# EAGLE library part STM32F030K6 (library pel_stm32)
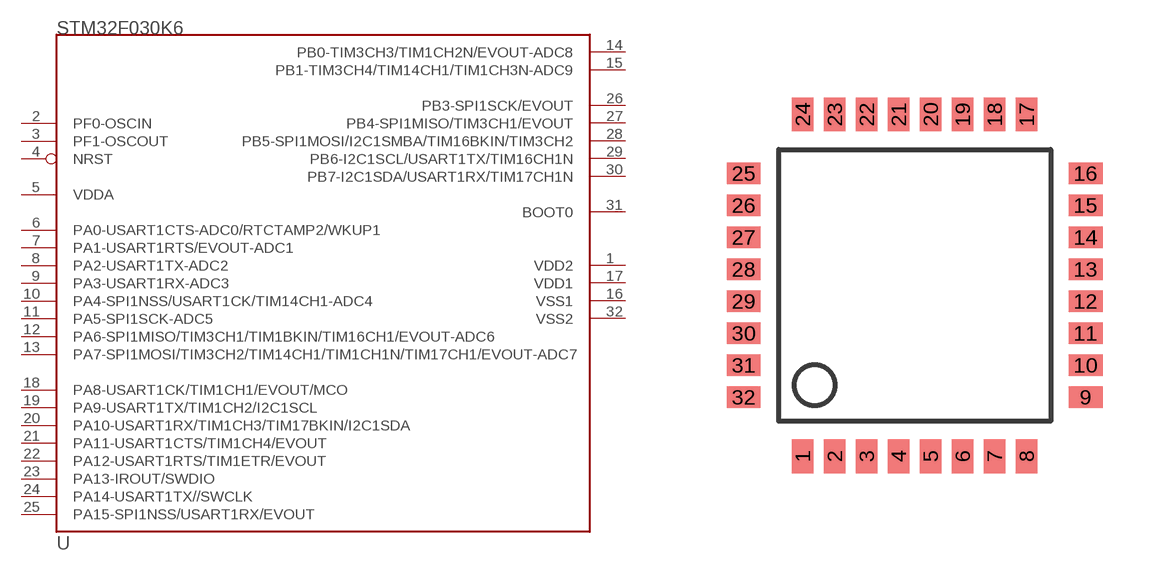
[diagram p10: symbol with the pads of LQFP32; footprint LQFP32]

Designator prefix -

## STM32F030K6  [LQFP32]
1  VDD2
2  PF0-OSCIN
3  PF1-OSCOUT
4  NRST
5  VDDA
6  PA0-USART1CTS-ADC0/RTCTAMP2/WKUP1
7  PA1-USART1RTS/EVOUT-ADC1
8  PA2-USART1TX-ADC2
9  PA3-USART1RX-ADC3
10  PA4-SPI1NSS/USART1CK/TIM14CH1-ADC4
11  PA5-SPI1SCK-ADC5
12  PA6-SPI1MISO/TIM3CH1/TIM1BKIN/TIM16CH1/EVOUT-ADC6
13  PA7-SPI1MOSI/TIM3CH2/TIM14CH1/TIM1CH1N/TIM17CH1/EVOUT-ADC7
14  PB0-TIM3CH3/TIM1CH2N/EVOUT-ADC8
15  PB1-TIM3CH4/TIM14CH1/TIM1CH3N-ADC9
16  VSS1
17  VDD1
18  PA8-USART1CK/TIM1CH1/EVOUT/MCO
19  PA9-USART1TX/TIM1CH2/I2C1SCL
20  PA10-USART1RX/TIM1CH3/TIM17BKIN/I2C1SDA
21  PA11-USART1CTS/TIM1CH4/EVOUT
22  PA12-USART1RTS/TIM1ETR/EVOUT
23  PA13-IROUT/SWDIO
24  PA14-USART1TX//SWCLK
25  PA15-SPI1NSS/USART1RX/EVOUT
26  PB3-SPI1SCK/EVOUT
27  PB4-SPI1MISO/TIM3CH1/EVOUT
28  PB5-SPI1MOSI/I2C1SMBA/TIM16BKIN/TIM3CH2
29  PB6-I2C1SCL/USART1TX/TIM16CH1N
30  PB7-I2C1SDA/USART1RX/TIM17CH1N
31  BOOT0  in
32  VSS2

## Footprint LQFP32 (pad centres in mm)
smd 0.54 x 0.85: 1 -2.8,-4.275; 2 -2,-4.275; 3 -1.2,-4.275; 4 -0.4,-4.275; 5 0.4,-4.275; 6 1.2,-4.275; 7 2,-4.275; 8 2.8,-4.275; 17 2.8,4.275; 18 2,4.275; 19 1.2,4.275; 20 0.4,4.275; 21 -0.4,4.275; 22 -1.2,4.275; 23 -2,4.275; 24 -2.8,4.275
smd 0.85 x 0.54: 9 4.275,-2.8; 10 4.275,-2; 11 4.275,-1.2; 12 4.275,-0.4; 13 4.275,0.4; 14 4.275,1.2; 15 4.275,2; 16 4.275,2.8; 25 -4.275,2.8; 26 -4.275,2; 27 -4.275,1.2; 28 -4.275,0.4; 29 -4.275,-0.4; 30 -4.275,-1.2; 31 -4.275,-2; 32 -4.275,-2.8